# EAGLE library part BQ27210 (library lib_stankus)
TI BQ27210 battery gas gauge Farnell #1754768
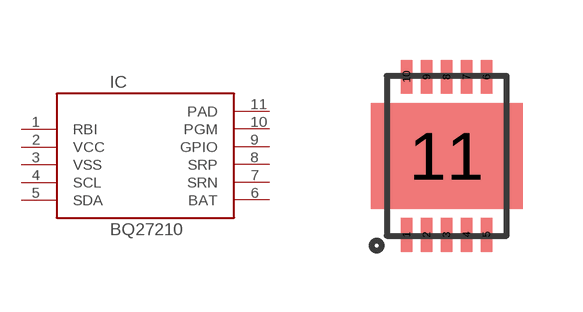
[diagram p28: symbol with the pads of VSON10; footprint VSON10]

Designator prefix IC

## BQ27210-VSON10  [VSON10]
1  RBI  pas
2  VCC  pas
3  VSS  pas
4  SCL  pas
5  SDA  pas
6  BAT  pas
7  SRN  pas
8  SRP  pas
9  GPIO  pas
10  PGM  pas
11  PAD  pas

## Footprint VSON10 (pad centres in mm)
VSON10
smd 0.28 x 0.85: 1 -1,-1.975; 2 -0.5,-1.975; 3 0,-1.975; 4 0.5,-1.975; 5 1,-1.975; 6 1,1.975; 7 0.5,1.975; 8 0,1.975; 9 -0.5,1.975; 10 -1,1.975
smd 3.8 x 2.65: 11 0,0